# Altium schematic symbol library LM34_SOIC.SchLib: 1 symbol
Pins are listed as number, name and electrical type; pins without a type are passive.

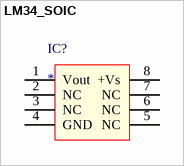
[diagram p0: symbol LM34_SOIC]

## LM34_SOIC
designator IC?
footprint SO-8-SST
pins: 1 Vout, 2 NC, 3 NC, 4 GND, 5 NC, 6 NC, 7 NC, 8 +Vs